# Altium footprint library ST-Microelectronics Footprints.PcbLib: 320 footprints (part 17 of 20)
Each footprint in its own frame and in the unit in brackets; x right, y up, seen from the top. Pads: shape width x height; smd on the part's side, far side on the other; paste and mask are expansions set on the pad; w line width, h text height; cw(c..) or ccw(c..) is an arc to the next point about the centre after c.
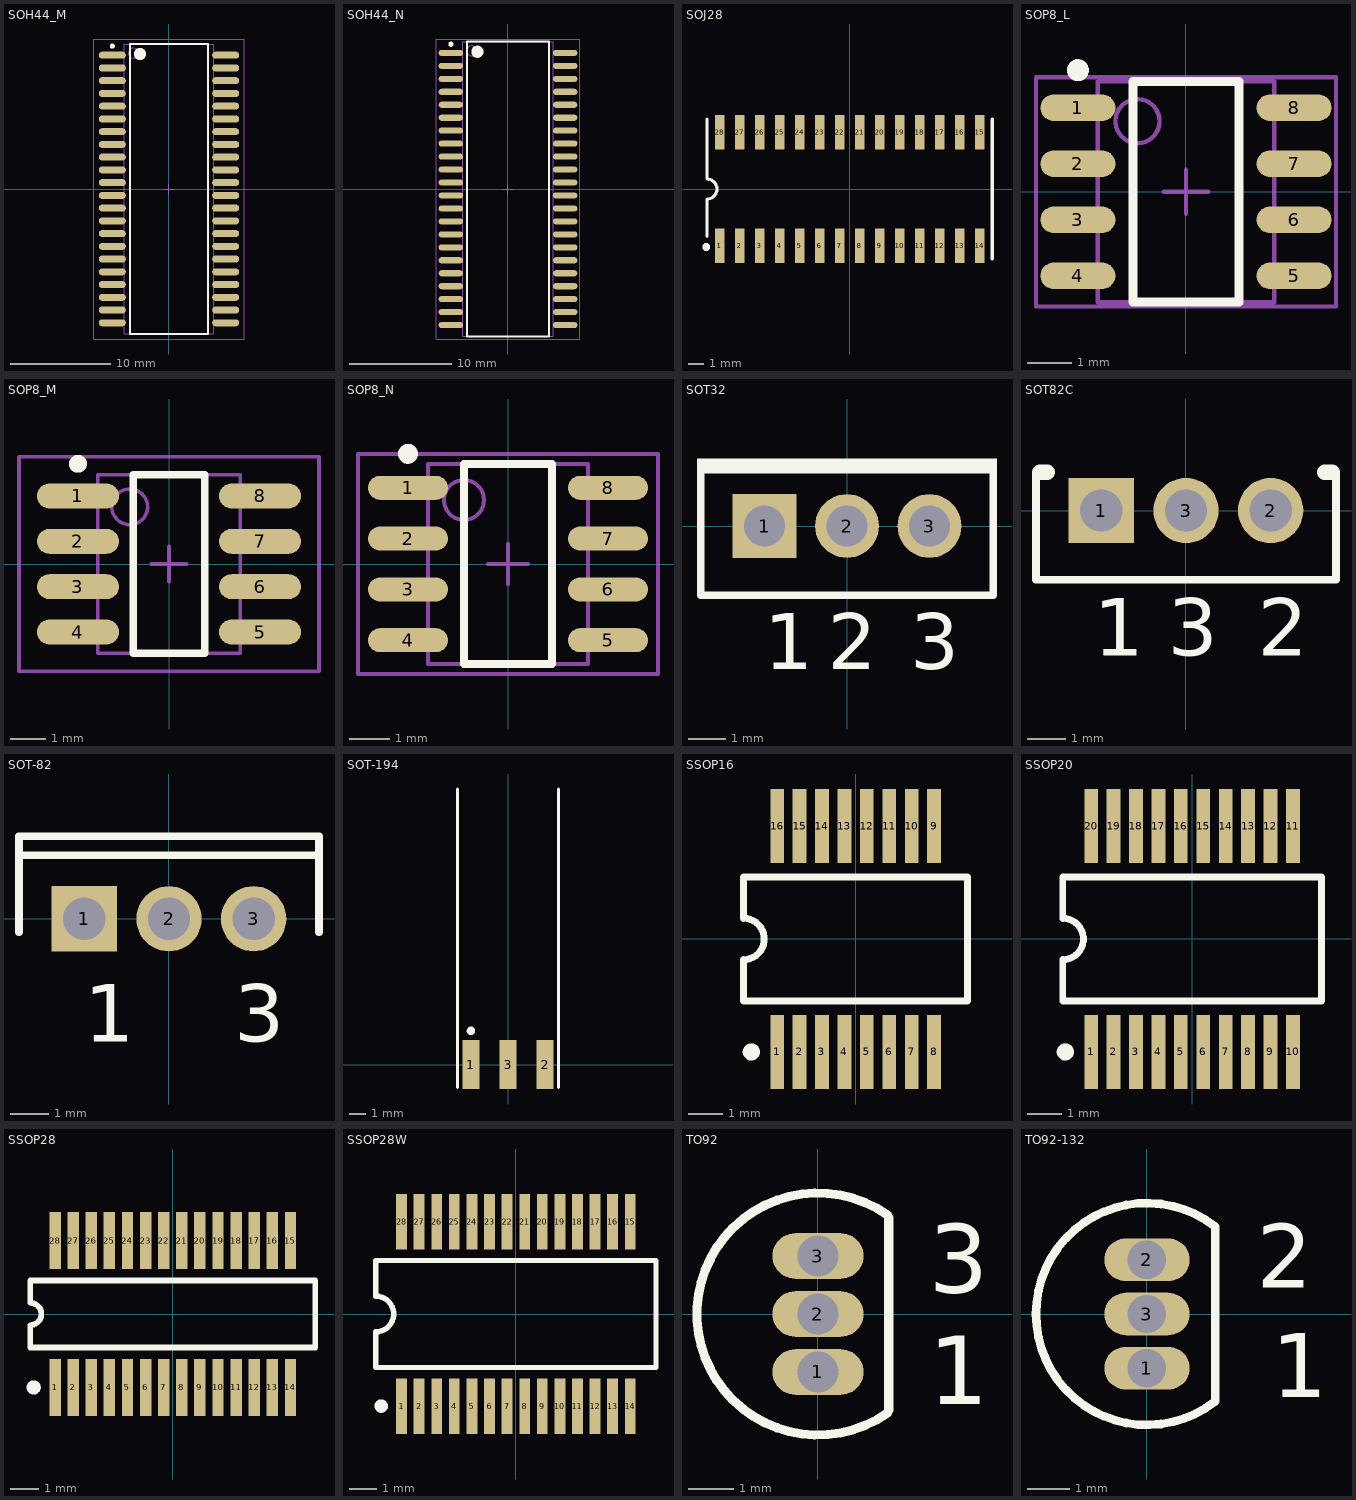
[diagram p16: the footprints below, top view; thin cyan lines are the x and y axes]

## SOH44_M [mm] "44-Pin Plastic Battery Snaphat Small Outline Package 1.27 mm Pitch, IPC Low Density"
height 3.05
pads (44):
  oval 2.7x0.7 smd: 1(-5.65,13.335) 2(-5.65,12.065) 3(-5.65,10.795) 4(-5.65,9.525) 5(-5.65,8.255) 6(-5.65,6.985) 7(-5.65,5.715) 8(-5.65,4.445) 9(-5.65,3.175) 10(-5.65,1.905) 11(-5.65,0.635) 12(-5.65,-0.635) 13(-5.65,-1.905) 14(-5.65,-3.175) 15(-5.65,-4.445) 16(-5.65,-5.715) 17(-5.65,-6.985) 18(-5.65,-8.255) 19(-5.65,-9.525) 20(-5.65,-10.795) 21(-5.65,-12.065) 22(-5.65,-13.335) 23(5.65,-13.335) 24(5.65,-12.065) 25(5.65,-10.795) 26(5.65,-9.525) 27(5.65,-8.255) 28(5.65,-6.985) 29(5.65,-5.715) 30(5.65,-4.445) 31(5.65,-3.175) 32(5.65,-1.905) 33(5.65,-0.635) 34(5.65,0.635) 35(5.65,1.905) 36(5.65,3.175) 37(5.65,4.445) 38(5.65,5.715) 39(5.65,6.985) 40(5.65,8.255) 41(5.65,9.525) 42(5.65,10.795) 43(5.65,12.065) 44(5.65,13.335)
Top Overlay:
  circle w0.25: c-5.65,14.235 r0.125
  circle w0.6: c-2.9,13.45 r0.3
  lines w0.2: -3.9,-14.45 -3.9,14.45 3.9,14.45 3.9,-14.45 -3.9,-14.45
Mechanical 13:
  circle w0.1: c-3.545,13.535 r0.5
  lines w0.1: -4.445,-14.435 -4.445,14.435 4.445,14.435 4.445,-14.435 -4.445,-14.435
Mechanical 15:
  lines w0.1: -0.5,0 0.5,0 ; 0,-0.5 0,0.5 ; -7.5,-14.95 -7.5,14.95 7.5,14.95 7.5,-14.95 -7.5,-14.95
3D body: height 3.05, standoff 0, extent -4.445,-14.435 4.445,14.435

## SOH44_N [mm] "44-Pin Plastic Battery Snaphat Small Outline Package 1.27 mm Pitch, IPC Medium Density"
height 3.05
pads (44):
  oval 2.4x0.6 smd: 1(-5.6,13.335) 2(-5.6,12.065) 3(-5.6,10.795) 4(-5.6,9.525) 5(-5.6,8.255) 6(-5.6,6.985) 7(-5.6,5.715) 8(-5.6,4.445) 9(-5.6,3.175) 10(-5.6,1.905) 11(-5.6,0.635) 12(-5.6,-0.635) 13(-5.6,-1.905) 14(-5.6,-3.175) 15(-5.6,-4.445) 16(-5.6,-5.715) 17(-5.6,-6.985) 18(-5.6,-8.255) 19(-5.6,-9.525) 20(-5.6,-10.795) 21(-5.6,-12.065) 22(-5.6,-13.335) 23(5.6,-13.335) 24(5.6,-12.065) 25(5.6,-10.795) 26(5.6,-9.525) 27(5.6,-8.255) 28(5.6,-6.985) 29(5.6,-5.715) 30(5.6,-4.445) 31(5.6,-3.175) 32(5.6,-1.905) 33(5.6,-0.635) 34(5.6,0.635) 35(5.6,1.905) 36(5.6,3.175) 37(5.6,4.445) 38(5.6,5.715) 39(5.6,6.985) 40(5.6,8.255) 41(5.6,9.525) 42(5.6,10.795) 43(5.6,12.065) 44(5.6,13.335)
Top Overlay:
  circle w0.25: c-5.6,14.185 r0.125
  circle w0.6: c-3,13.45 r0.3
  lines w0.2: -4,-14.45 -4,14.45 4,14.45 4,-14.45 -4,-14.45
Mechanical 13:
  circle w0.1: c-3.545,13.535 r0.5
  lines w0.1: -4.445,-14.435 -4.445,14.435 4.445,14.435 4.445,-14.435 -4.445,-14.435
Mechanical 15:
  lines w0.1: -0.5,0 0.5,0 ; 0,-0.5 0,0.5 ; -7.05,-14.7 -7.05,14.7 7.05,14.7 7.05,-14.7 -7.05,-14.7
3D body: height 3.05, standoff 0, extent -4.445,-14.435 4.445,14.435

## SOJ28 [mm] "SOJ; 28 Leads; Body Width 7.5 mm; Pitch 1.27 mm"
height 3.56
pads (28):
  rect 0.6x2.2 smd: 1(-8.255,-3.6) 2(-6.985,-3.6) 3(-5.715,-3.6) 4(-4.445,-3.6) 5(-3.175,-3.6) 6(-1.905,-3.6) 7(-0.635,-3.6) 8(0.635,-3.6) 9(1.905,-3.6) 10(3.175,-3.6) 11(4.445,-3.6) 12(5.715,-3.6) 13(6.985,-3.6) 14(8.255,-3.6) 15(8.255,3.6) 16(6.985,3.6) 17(5.715,3.6) 18(4.445,3.6) 19(3.175,3.6) 20(1.905,3.6) 21(0.635,3.6) 22(-0.635,3.6) 23(-1.905,3.6) 24(-3.175,3.6) 25(-4.445,3.6) 26(-5.715,3.6) 27(-6.985,3.6) 28(-8.255,3.6)
Top Overlay:
  circle w0.25: c-9.105,-3.68 r0.125
  lines w0.2: -9.055,-3 -9.055,-0.639 ccw(c-9.055,-0.004) -9.055,0.631 -9.055,4.45 ; 9.055,-4.45 9.055,4.45

## SOP8_L [mm] "8-Pin Small Outline Integrated Circuit 1.27 mm Pitch, IPC High Density"
height 1.75
pads (8):
  oval 1.7x0.6 smd: 1(-2.45,1.905) 2(-2.45,0.635) 3(-2.45,-0.635) 4(-2.45,-1.905) 5(2.45,-1.905) 6(2.45,-0.635) 7(2.45,0.635) 8(2.45,1.905)
Top Overlay:
  circle w0.25: c-2.45,2.755 r0.125
  lines w0.2: -1.2,-2.5 1.2,-2.5 1.2,2.5 -1.2,2.5 -1.2,-2.5
Mechanical 13:
  circle w0.1: c-1.1,1.6 r0.5
  lines w0.1: -2,-2.5 2,-2.5 2,2.5 -2,2.5 -2,-2.5
Mechanical 15:
  lines w0.1: -0.5,0 0.5,0 ; 0,-0.5 0,0.5 ; -3.4,-2.6 3.4,-2.6 3.4,2.6 -3.4,2.6 -3.4,-2.6
3D body: height 1.75, standoff 0, extent -2,-2.5 2,2.5

## SOP8_M [mm] "8-Pin Small Outline Integrated Circuit 1.27 mm Pitch, IPC Low Density"
height 1.75
pads (8):
  oval 2.3x0.7 smd: 1(-2.55,1.905) 2(-2.55,0.635) 3(-2.55,-0.635) 4(-2.55,-1.905) 5(2.55,-1.905) 6(2.55,-0.635) 7(2.55,0.635) 8(2.55,1.905)
Top Overlay:
  circle w0.25: c-2.55,2.805 r0.125
  lines w0.2: -1,-2.5 1,-2.5 1,2.5 -1,2.5 -1,-2.5
Mechanical 13:
  circle w0.1: c-1.1,1.6 r0.5
  lines w0.1: -2,-2.5 2,-2.5 2,2.5 -2,2.5 -2,-2.5
Mechanical 15:
  lines w0.1: -0.5,0 0.5,0 ; 0,-0.5 0,0.5 ; -4.2,-3 4.2,-3 4.2,3 -4.2,3 -4.2,-3
3D body: height 1.75, standoff 0, extent -2,-2.5 2,2.5

## SOP8_N [mm] "8-Pin Small Outline Integrated Circuit 1.27 mm Pitch, IPC Medium Density"
height 1.75
pads (8):
  oval 2x0.6 smd: 1(-2.5,1.905) 2(-2.5,0.635) 3(-2.5,-0.635) 4(-2.5,-1.905) 5(2.5,-1.905) 6(2.5,-0.635) 7(2.5,0.635) 8(2.5,1.905)
Top Overlay:
  circle w0.25: c-2.5,2.755 r0.125
  lines w0.2: -1.1,-2.5 1.1,-2.5 1.1,2.5 -1.1,2.5 -1.1,-2.5
Mechanical 13:
  circle w0.1: c-1.1,1.6 r0.5
  lines w0.1: -2,-2.5 2,-2.5 2,2.5 -2,2.5 -2,-2.5
Mechanical 15:
  lines w0.1: -0.5,0 0.5,0 ; 0,-0.5 0,0.5 ; -3.75,-2.75 3.75,-2.75 3.75,2.75 -3.75,2.75 -3.75,-2.75
3D body: height 1.75, standoff 0, extent -2,-2.5 2,2.5

## SOT32 [mm] "SIP with Mounting Hole; 3 Leads; Body 10.7 x 7.6 x 2.6 mm (typ); Pitch 2.2 mm"
height 13.4
pads (3):
  rect 1.7x1.7 hole 1.1: 1(-2.2,0)
  round 1.7 hole 1.1: 2(0,0) 3(2.2,0)
Top Overlay:
  rectangle: -4,1.4 4,1.8
  lines w0.2: -3.9,1.4 -3.9,-1.85 3.9,-1.85 3.9,1.4
  text "1" at -2.2,-3.825 h1.5
  text "2" at -0.508,-3.825 h1.5
  text "3" at 1.692,-3.825 h1.5

## SOT82C [mm] "SIP; 3 Leads; Body 10.9 x 7.6 x 2.6 mm (typ); Pitch 2.2 mm"
height 11.3
pads (3):
  rect 1.7x1.7 hole 1.1: 1(-2.2,0)
  round 1.7 hole 1.1: 2(2.2,0) 3(0,0)
Top Overlay:
  lines w0.2: -3.9,1 -3.9,-1.8 3.9,-1.8 3.9,1
  lines w0.4: -3.8,1 -3.6,1 ; 3.6,1 3.8,1
  text "3" at -0.47,-3.78 h1.5
  text "1" at -2.4,-3.78 h1.5
  text "2" at 1.86,-3.78 h1.5

## SOT-82 [mm] "SIP; 3 Leads; Body 10.9 x 7.6 x 2.4 mm (typ); Pitch 2.2 mm"
height 13.9
pads (3):
  rect 1.7x1.7 hole 1.1: 1(-2.2,0)
  round 1.7 hole 1.1: 2(0,0) 3(2.2,0)
Top Overlay:
  lines w0.2: -3.9,-0.35 -3.9,2.15 3.9,2.15 3.9,-0.35 ; -3.9,1.65 3.9,1.65
  text "1" at -2.2,-3.2 h1.5
  text "3" at 1.7,-3.2 h1.5

## SOT-194 [mm] "Single-Ended SM Package; 3 Leads; Body 17.1 (inc. leads) x 7.8 mm (LxW max)"
height 2.7
pads (3):
  rect 1x2.9 smd: 1(-2.2,0) 2(2.2,0) 3(0,0)
Top Overlay:
  circle w0.25: c-2.2,2 r0.125
  lines w0.2: -3,-1.35 -3,16.35 ; 3,-1.35 3,16.35

## SSOP16 [mm] "SSOP, Plastic; 16 Leads; Body Width 5.3 mm; Pitch 0.65 mm"
height 2
pads (16):
  rect 0.4x2.15 smd: 1(-2.275,-3.275) 2(-1.625,-3.275) 3(-0.975,-3.275) 4(-0.325,-3.275) 5(0.325,-3.275) 6(0.975,-3.275) 7(1.625,-3.275) 8(2.275,-3.275) 9(2.275,3.275) 10(1.625,3.275) 11(0.975,3.275) 12(0.325,3.275) 13(-0.325,3.275) 14(-0.975,3.275) 15(-1.625,3.275) 16(-2.275,3.275)
Top Overlay:
  circle w0.25: c-3.025,-3.275 r0.125
  lines w0.2: -3.25,-1.8 3.25,-1.8 3.25,1.8 -3.25,1.8 -3.25,0.6 cw(c-3.25,0) -3.25,-0.6 -3.25,-1.8

## SSOP20 [mm] "SSOP, Plastic; 20 Leads; Body Width 5.3 mm; Pitch 0.65 mm"
height 2
pads (20):
  rect 0.4x2.15 smd: 1(-2.925,-3.275) 2(-2.275,-3.275) 3(-1.625,-3.275) 4(-0.975,-3.275) 5(-0.325,-3.275) 6(0.325,-3.275) 7(0.975,-3.275) 8(1.625,-3.275) 9(2.275,-3.275) 10(2.925,-3.275) 11(2.925,3.275) 12(2.275,3.275) 13(1.625,3.275) 14(0.975,3.275) 15(0.325,3.275) 16(-0.325,3.275) 17(-0.975,3.275) 18(-1.625,3.275) 19(-2.275,3.275) 20(-2.925,3.275)
Top Overlay:
  circle w0.25: c-3.675,-3.275 r0.125
  lines w0.2: -3.75,-1.8 3.75,-1.8 3.75,1.8 -3.75,1.8 -3.75,0.6 cw(c-3.75,0) -3.75,-0.6 -3.75,-1.8

## SSOP28 [mm] "SSOP; 28 Leads; Body Width 3.9 mm; Pitch 0.635 mm"
height 1.75
pads (28):
  rect 0.4x2 smd: 1(-4.127,-2.575) 2(-3.492,-2.575) 3(-2.857,-2.575) 4(-2.222,-2.575) 5(-1.587,-2.575) 6(-0.953,-2.575) 7(-0.318,-2.575) 8(0.318,-2.575) 9(0.953,-2.575) 10(1.587,-2.575) 11(2.222,-2.575) 12(2.857,-2.575) 13(3.492,-2.575) 14(4.127,-2.575) 15(4.127,2.575) 16(3.492,2.575) 17(2.857,2.575) 18(2.222,2.575) 19(1.587,2.575) 20(0.953,2.575) 21(0.318,2.575) 22(-0.318,2.575) 23(-0.953,2.575) 24(-1.587,2.575) 25(-2.222,2.575) 26(-2.857,2.575) 27(-3.492,2.575) 28(-4.127,2.575)
Top Overlay:
  circle w0.25: c-4.878,-2.575 r0.125
  lines w0.2: -5,-1.175 -5,-0.392 ccw(c-5,0) -5,0.392 -5,1.175 5,1.175 5,-1.175 -5,-1.175

## SSOP28W [mm] "SSOP, Plastic; 28 Leads; Body Width 5.3 mm; Pitch 0.65 mm"
height 2
pads (28):
  rect 0.4x2.05 smd: 1(-4.225,-3.4) 2(-3.575,-3.4) 3(-2.925,-3.4) 4(-2.275,-3.4) 5(-1.625,-3.4) 6(-0.975,-3.4) 7(-0.325,-3.4) 8(0.325,-3.4) 9(0.975,-3.4) 10(1.625,-3.4) 11(2.275,-3.4) 12(2.925,-3.4) 13(3.575,-3.4) 14(4.225,-3.4) 15(4.225,3.4) 16(3.575,3.4) 17(2.925,3.4) 18(2.275,3.4) 19(1.625,3.4) 20(0.975,3.4) 21(0.325,3.4) 22(-0.325,3.4) 23(-0.975,3.4) 24(-1.625,3.4) 25(-2.275,3.4) 26(-2.925,3.4) 27(-3.575,3.4) 28(-4.225,3.4)
Top Overlay:
  circle w0.25: c-4.975,-3.4 r0.125
  lines w0.2: -5.175,-1.975 -5.175,-0.658 ccw(c-5.175,0) -5.175,0.658 -5.175,1.975 5.175,1.975 5.175,-1.975 -5.175,-1.975

## TO92 [mm] "TO, Flat Index; 3 In-Line, Axial Leads; Body Dia. 4.8mm; Leads 0.51 x 0.51 mm (max)"
height 5.33
pads (3):
  oval 2x1 hole 0.9: 1(0,-1.27) 2(0,0) 3(0,1.27)
Top Overlay:
  lines w0.2: 1.52,-2.171 cw(c0,0) 1.52,2.171 ; 1.55,-2.1 1.55,2.1
  text "3" at 2.421,0.467 h1.5
  text "1" at 2.421,-1.979 h1.5

## TO92-132 [mm] "TO, Flat Index; 3 In-Line, Axial Leads; Body Dia. 4.8mm; Leads 0.51 x 0.51 mm (max)"
height 5.33
pads (3):
  oval 2x1 hole 0.9: 1(0,-1.27) 2(0,1.27) 3(0,0)
Top Overlay:
  lines w0.2: 1.601,-2.049 cw(c0,0) 1.601,2.049 ; 1.6,-1.99 1.6,1.99
  text "1" at 2.93,-1.95 h1.5
  text "2" at 2.57,0.61 h1.5